# EAGLE library part SSM2167 (library CC2530_PCB_TL - Backup Copy - DO NOT EDIT)
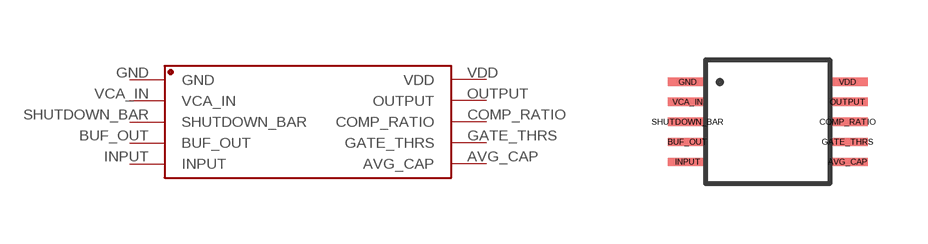
[diagram p1: symbol with the pads of SSM2167; footprint SSM2167]

Designator prefix -

## SSM2167  [SSM2167]
AVG_CAP  AVG_CAP
BUF_OUT  BUF_OUT
COMP_RATIO  COMP_RATIO
GATE_THRS  GATE_THRS
GND  GND  pwr
INPUT  INPUT
OUTPUT  OUTPUT
SHUTDOWN_BAR  SHUTDOWN_BAR
VCA_IN  VCA_IN
VDD  VDD  pwr

## Footprint SSM2167 (pad centres in mm)
Audio PreAmp SSM2167-1RMZ-R7
smd 1 x 0.2: AVG_CAP 2,-1; BUF_OUT -2,-0.5; COMP_RATIO 2,0; GATE_THRS 2,-0.5; GND -2,1; INPUT -2,-1; OUTPUT 2,0.5; SHUTDOWN_BAR -2,0; VCA_IN -2,0.5; VDD 2,1